# Altium schematic symbol library GRM033R71E332KA12D.SchLib: 1 symbol
Pins are listed as number, name and electrical type; pins without a type are passive.

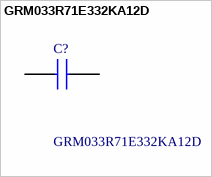
[diagram p0: symbol GRM033R71E332KA12D]

## GRM033R71E332KA12D
designator C?
Multilayer Ceramic Capacitors MLCC - SMD/SMT 0201 3300pF 25volts X7R 10%; Manufacturer_Name: Murata Electronics; Geometry.Height: 0.33mm; Mouser Part Number: 81-GRM033R71E332KA2D; Mouser Price/Stock: https://www.mouser.co.uk/ProductDetail/Murata-Electronics/GRM033R71E332KA12D?qs=2W5sgKM%2F371PFcX98iJqHA%3D%3D; Manufacturer_Part_Number: GRM033R71E332KA12D; Datasheet Link: https://search.murata.co.jp/Ceramy/image/img/A01X/G101/ENG/GRM033R71E332KA12-01A.pdf
footprint CAPC0603X33N
pins: 1, 2